# Altium schematic symbol library diodos.SchLib: 4 symbols
Pins are listed as number, name and electrical type; pins without a type are passive.

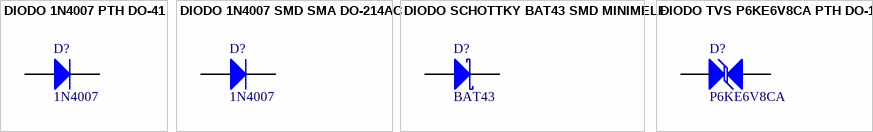
[diagram p0: symbols DIODO 1N4007 PTH DO-41 to DIODO TVS P6KE6V8CA PTH DO-15]

## DIODO 1N4007 PTH DO-41
designator D?, comment 1N4007
1 Amp General Purpose Rectifier; Footprint: DO-204-AL
footprint DO-41 (Diode, Axial; Body 5.2 x 2.7 mm (LxDia. max), Lead Dia. 0.86 mm (max))
signal-integrity model 1N4007
pins: 1 A, 2 K

## DIODO 1N4007 SMD SMA DO-214AC
designator D?, comment 1N4007
1 Amp General Purpose Rectifier; Footprint: DO-214-AC
footprint DIODE SMA
signal-integrity model 1N4007
pins: 1 A, 2 K

## DIODO SCHOTTKY BAT43 SMD MINIMELF
designator D?, comment BAT43
Schottky Diode
footprint MELF-D3516-1406 (Metal Electrode Face (MELF) Diode; Body 3.5 x 1.7 mm (LxDia))
signal-integrity model D Schottky
pins: 1 A, 2 K

## DIODO TVS P6KE6V8CA PTH DO-15
designator D?, comment P6KE6V8CA
600W Transient Voltage Supressor
footprint DO-15 500mil
pins: 1 A, 2 K